# EAGLE library part 4X0603R (library LARS_409_R,C,L)
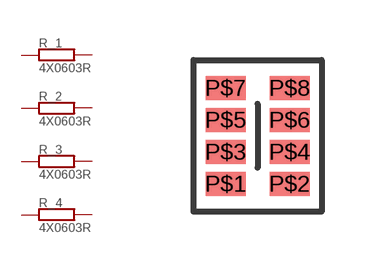
[diagram p0: symbol with the pads of 4х0603R; footprint 4х0603R]

Designator prefix R; gates _1=R _2=R _3=R _4=R

## 4X0603R  [4х0603R]
P$1  _1:P$1
P$2  _1:P$2
P$3  _2:P$1
P$4  _2:P$2
P$5  _3:P$1
P$6  _3:P$2
P$7  _4:P$1
P$8  _4:P$2

## Footprint 4х0603R (pad centres in mm)
smd 1 x 0.6: P$1 -0.81,-1.23; P$2 0.79,-1.23; P$3 -0.81,-0.43; P$4 0.79,-0.43; P$5 -0.81,0.37; P$6 0.79,0.37; P$7 -0.81,1.17; P$8 0.79,1.17